# Altium footprint library Connector_Phoenix_MSTB.PcbLib: 180 footprints (part 3 of 12)
Each footprint in its own frame and in the unit in brackets; x right, y up, seen from the top. Pads: shape width x height; smd on the part's side, far side on the other; paste and mask are expansions set on the pad; w line width, h text height; cw(c..) or ccw(c..) is an arc to the next point about the centre after c.
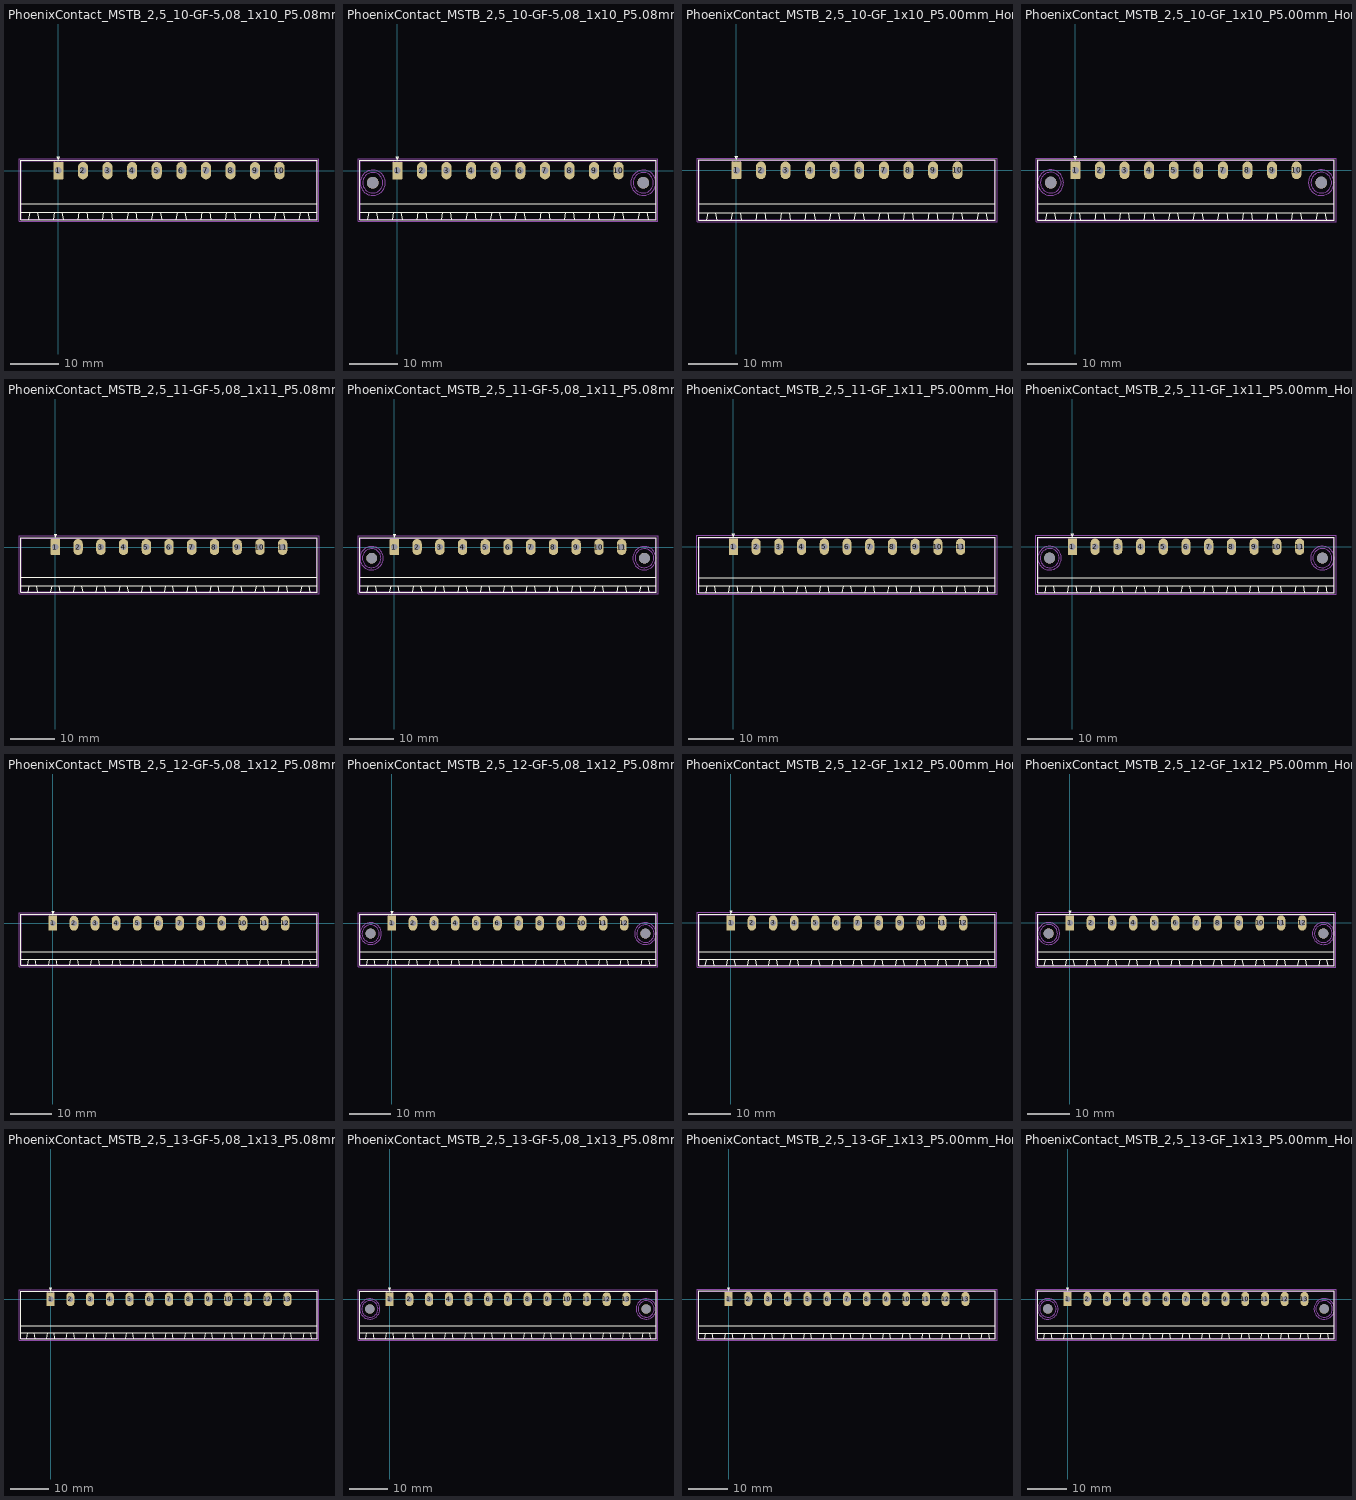
[diagram p2: the footprints below, top view; thin cyan lines are the x and y axes]

## PhoenixContact_MSTB_2,5_10-GF-5,08_1x10_P5.08mm_Horizontal_ThreadedFlange [mm]
pads (10):
  rrect12% 2.08x3.6 hole 1.4: 1(0,0)
  rrect100% 2.08x3.6 hole 1.4: 2(5.08,0) 3(10.16,0) 4(15.24,0) 5(20.32,0) 6(25.4,0) 7(30.48,0) 8(35.56,0) 9(40.64,0) 10(45.72,0)
F.SilkS:
  lines w0.254: -7.73,-10.11 53.45,-10.11 53.45,2.11 -7.73,2.11 -7.73,-10.11 ; -7.73,-8.61 53.45,-8.61 53.45,-6.81 -7.73,-6.81 -7.73,-8.61 ; -6.08,-10.11 -5.83,-8.61 -4.33,-8.61 -4.08,-10.11 -6.08,-10.11 ; -1,-10.11 -0.75,-8.61 0.75,-8.61 1,-10.11 -1,-10.11 ; -0.3,2.91 0,2.31 0.3,2.91 -0.3,2.91 ; 4.08,-10.11 4.33,-8.61 5.83,-8.61 6.08,-10.11 4.08,-10.11 ; 9.16,-10.11 9.41,-8.61 10.91,-8.61 11.16,-10.11 9.16,-10.11 ; 14.24,-10.11 14.49,-8.61 15.99,-8.61 16.24,-10.11 14.24,-10.11 ; 19.32,-10.11 19.57,-8.61 21.07,-8.61 21.32,-10.11 19.32,-10.11 ; 24.4,-10.11 24.65,-8.61 26.15,-8.61 26.4,-10.11 24.4,-10.11 ; 29.48,-10.11 29.73,-8.61 31.23,-8.61 31.48,-10.11 29.48,-10.11 ; 34.56,-10.11 34.81,-8.61 36.31,-8.61 36.56,-10.11 34.56,-10.11 ; 39.64,-10.11 39.89,-8.61 41.39,-8.61 41.64,-10.11 39.64,-10.11 ; 44.72,-10.11 44.97,-8.61 46.47,-8.61 46.72,-10.11 44.72,-10.11 ; 49.8,-10.11 50.05,-8.61 51.55,-8.61 51.8,-10.11 49.8,-10.11
Top Assembly:
  lines w0.254: -0.95,2 0,0.5 0.95,2 ; -7.62,-10 53.34,-10 53.34,2 -7.62,2 -7.62,-10
  text "'.Designator'" at 18.813,0.46 h1
Top Courtyard:
  lines w0.254: -8.13,-10.5 53.84,-10.5 53.84,2.5 -8.13,2.5 -8.13,-10.5
Top Designator:
  text ".Designator" at 15.237,-4.303 h1.52

## PhoenixContact_MSTB_2,5_10-GF-5,08_1x10_P5.08mm_Horizontal_ThreadedFlange_MountHole [mm]
pads (12):
  rrect12% 2.08x3.6 hole 1.4: 1(0,0)
  rrect100% 2.08x3.6 hole 1.4: 2(5.08,0) 3(10.16,0) 4(15.24,0) 5(20.32,0) 6(25.4,0) 7(30.48,0) 8(35.56,0) 9(40.64,0) 10(45.72,0)
  round 2.4 hole 2.4: Un1(-5.08,-2.5) Un2(50.8,-2.5)
F.SilkS:
  lines w0.254: -7.73,-10.11 53.45,-10.11 53.45,2.11 -7.73,2.11 -7.73,-10.11 ; -7.73,-8.61 53.45,-8.61 53.45,-6.81 -7.73,-6.81 -7.73,-8.61 ; -6.08,-10.11 -5.83,-8.61 -4.33,-8.61 -4.08,-10.11 -6.08,-10.11 ; -1,-10.11 -0.75,-8.61 0.75,-8.61 1,-10.11 -1,-10.11 ; -0.3,2.91 0,2.31 0.3,2.91 -0.3,2.91 ; 4.08,-10.11 4.33,-8.61 5.83,-8.61 6.08,-10.11 4.08,-10.11 ; 9.16,-10.11 9.41,-8.61 10.91,-8.61 11.16,-10.11 9.16,-10.11 ; 14.24,-10.11 14.49,-8.61 15.99,-8.61 16.24,-10.11 14.24,-10.11 ; 19.32,-10.11 19.57,-8.61 21.07,-8.61 21.32,-10.11 19.32,-10.11 ; 24.4,-10.11 24.65,-8.61 26.15,-8.61 26.4,-10.11 24.4,-10.11 ; 29.48,-10.11 29.73,-8.61 31.23,-8.61 31.48,-10.11 29.48,-10.11 ; 34.56,-10.11 34.81,-8.61 36.31,-8.61 36.56,-10.11 34.56,-10.11 ; 39.64,-10.11 39.89,-8.61 41.39,-8.61 41.64,-10.11 39.64,-10.11 ; 44.72,-10.11 44.97,-8.61 46.47,-8.61 46.72,-10.11 44.72,-10.11 ; 49.8,-10.11 50.05,-8.61 51.55,-8.61 51.8,-10.11 49.8,-10.11
B.SilkS:
  circle w0.254: c50.8,-2.5 r2.21
  circle w0.254: c-5.08,-2.5 r2.21
Top Assembly:
  lines w0.254: -0.95,2 0,0.5 0.95,2 ; -7.62,-10 53.34,-10 53.34,2 -7.62,2 -7.62,-10
  text "'.Designator'" at 18.813,0.46 h1
Bottom Assembly:
  circle w0.254: c50.8,-2.5 r2.1
  circle w0.254: c-5.08,-2.5 r2.1
Top Courtyard:
  lines w0.254: -8.13,-10.5 53.84,-10.5 53.84,2.5 -8.13,2.5 -8.13,-10.5
Bottom Courtyard:
  circle w0.254: c50.8,-2.5 r2.6
  circle w0.254: c-5.08,-2.5 r2.6
Top Designator:
  text ".Designator" at 15.237,-4.303 h1.52

## PhoenixContact_MSTB_2,5_10-GF_1x10_P5.00mm_Horizontal_ThreadedFlange [mm]
pads (10):
  rrect12% 2x3.6 hole 1.4: 1(0,0)
  rrect100% 2x3.6 hole 1.4: 2(5,0) 3(10,0) 4(15,0) 5(20,0) 6(25,0) 7(30,0) 8(35,0) 9(40,0) 10(45,0)
F.SilkS:
  lines w0.254: -7.61,-10.11 52.61,-10.11 52.61,2.11 -7.61,2.11 -7.61,-10.11 ; -7.61,-8.61 52.61,-8.61 52.61,-6.81 -7.61,-6.81 -7.61,-8.61 ; -6,-10.11 -5.75,-8.61 -4.25,-8.61 -4,-10.11 -6,-10.11 ; -1,-10.11 -0.75,-8.61 0.75,-8.61 1,-10.11 -1,-10.11 ; -0.3,2.91 0,2.31 0.3,2.91 -0.3,2.91 ; 4,-10.11 4.25,-8.61 5.75,-8.61 6,-10.11 4,-10.11 ; 9,-10.11 9.25,-8.61 10.75,-8.61 11,-10.11 9,-10.11 ; 14,-10.11 14.25,-8.61 15.75,-8.61 16,-10.11 14,-10.11 ; 19,-10.11 19.25,-8.61 20.75,-8.61 21,-10.11 19,-10.11 ; 24,-10.11 24.25,-8.61 25.75,-8.61 26,-10.11 24,-10.11 ; 29,-10.11 29.25,-8.61 30.75,-8.61 31,-10.11 29,-10.11 ; 34,-10.11 34.25,-8.61 35.75,-8.61 36,-10.11 34,-10.11 ; 39,-10.11 39.25,-8.61 40.75,-8.61 41,-10.11 39,-10.11 ; 44,-10.11 44.25,-8.61 45.75,-8.61 46,-10.11 44,-10.11 ; 49,-10.11 49.25,-8.61 50.75,-8.61 51,-10.11 49,-10.11
Top Assembly:
  lines w0.254: -0.95,2 0,0.5 0.95,2 ; -7.5,-10 52.5,-10 52.5,2 -7.5,2 -7.5,-10
  text "'.Designator'" at 18.453,0.46 h1
Top Courtyard:
  lines w0.254: -8,-10.5 53,-10.5 53,2.5 -8,2.5 -8,-10.5
Top Designator:
  text ".Designator" at 14.882,-4.303 h1.52

## PhoenixContact_MSTB_2,5_10-GF_1x10_P5.00mm_Horizontal_ThreadedFlange_MountHole [mm]
pads (12):
  rrect12% 2x3.6 hole 1.4: 1(0,0)
  rrect100% 2x3.6 hole 1.4: 2(5,0) 3(10,0) 4(15,0) 5(20,0) 6(25,0) 7(30,0) 8(35,0) 9(40,0) 10(45,0)
  round 2.4 hole 2.4: Un1(-5,-2.5) Un2(50,-2.5)
F.SilkS:
  lines w0.254: -7.61,-10.11 52.61,-10.11 52.61,2.11 -7.61,2.11 -7.61,-10.11 ; -7.61,-8.61 52.61,-8.61 52.61,-6.81 -7.61,-6.81 -7.61,-8.61 ; -6,-10.11 -5.75,-8.61 -4.25,-8.61 -4,-10.11 -6,-10.11 ; -1,-10.11 -0.75,-8.61 0.75,-8.61 1,-10.11 -1,-10.11 ; -0.3,2.91 0,2.31 0.3,2.91 -0.3,2.91 ; 4,-10.11 4.25,-8.61 5.75,-8.61 6,-10.11 4,-10.11 ; 9,-10.11 9.25,-8.61 10.75,-8.61 11,-10.11 9,-10.11 ; 14,-10.11 14.25,-8.61 15.75,-8.61 16,-10.11 14,-10.11 ; 19,-10.11 19.25,-8.61 20.75,-8.61 21,-10.11 19,-10.11 ; 24,-10.11 24.25,-8.61 25.75,-8.61 26,-10.11 24,-10.11 ; 29,-10.11 29.25,-8.61 30.75,-8.61 31,-10.11 29,-10.11 ; 34,-10.11 34.25,-8.61 35.75,-8.61 36,-10.11 34,-10.11 ; 39,-10.11 39.25,-8.61 40.75,-8.61 41,-10.11 39,-10.11 ; 44,-10.11 44.25,-8.61 45.75,-8.61 46,-10.11 44,-10.11 ; 49,-10.11 49.25,-8.61 50.75,-8.61 51,-10.11 49,-10.11
B.SilkS:
  circle w0.254: c50,-2.5 r2.21
  circle w0.254: c-5,-2.5 r2.21
Top Assembly:
  lines w0.254: -0.95,2 0,0.5 0.95,2 ; -7.5,-10 52.5,-10 52.5,2 -7.5,2 -7.5,-10
  text "'.Designator'" at 18.453,0.46 h1
Bottom Assembly:
  circle w0.254: c50,-2.5 r2.1
  circle w0.254: c-5,-2.5 r2.1
Top Courtyard:
  lines w0.254: -8,-10.5 53,-10.5 53,2.5 -8,2.5 -8,-10.5
Bottom Courtyard:
  circle w0.254: c50,-2.5 r2.6
  circle w0.254: c-5,-2.5 r2.6
Top Designator:
  text ".Designator" at 14.882,-4.303 h1.52

## PhoenixContact_MSTB_2,5_11-GF-5,08_1x11_P5.08mm_Horizontal_ThreadedFlange [mm]
pads (11):
  rrect12% 2.08x3.6 hole 1.4: 1(0,0)
  rrect100% 2.08x3.6 hole 1.4: 2(5.08,0) 3(10.16,0) 4(15.24,0) 5(20.32,0) 6(25.4,0) 7(30.48,0) 8(35.56,0) 9(40.64,0) 10(45.72,0) 11(50.8,0)
F.SilkS:
  lines w0.254: -7.73,-10.11 58.53,-10.11 58.53,2.11 -7.73,2.11 -7.73,-10.11 ; -7.73,-8.61 58.53,-8.61 58.53,-6.81 -7.73,-6.81 -7.73,-8.61 ; -6.08,-10.11 -5.83,-8.61 -4.33,-8.61 -4.08,-10.11 -6.08,-10.11 ; -1,-10.11 -0.75,-8.61 0.75,-8.61 1,-10.11 -1,-10.11 ; -0.3,2.91 0,2.31 0.3,2.91 -0.3,2.91 ; 4.08,-10.11 4.33,-8.61 5.83,-8.61 6.08,-10.11 4.08,-10.11 ; 9.16,-10.11 9.41,-8.61 10.91,-8.61 11.16,-10.11 9.16,-10.11 ; 14.24,-10.11 14.49,-8.61 15.99,-8.61 16.24,-10.11 14.24,-10.11 ; 19.32,-10.11 19.57,-8.61 21.07,-8.61 21.32,-10.11 19.32,-10.11 ; 24.4,-10.11 24.65,-8.61 26.15,-8.61 26.4,-10.11 24.4,-10.11 ; 29.48,-10.11 29.73,-8.61 31.23,-8.61 31.48,-10.11 29.48,-10.11 ; 34.56,-10.11 34.81,-8.61 36.31,-8.61 36.56,-10.11 34.56,-10.11 ; 39.64,-10.11 39.89,-8.61 41.39,-8.61 41.64,-10.11 39.64,-10.11 ; 44.72,-10.11 44.97,-8.61 46.47,-8.61 46.72,-10.11 44.72,-10.11 ; 49.8,-10.11 50.05,-8.61 51.55,-8.61 51.8,-10.11 49.8,-10.11 ; 54.88,-10.11 55.13,-8.61 56.63,-8.61 56.88,-10.11 54.88,-10.11
Top Assembly:
  lines w0.254: -0.95,2 0,0.5 0.95,2 ; -7.62,-10 58.42,-10 58.42,2 -7.62,2 -7.62,-10
  text "'.Designator'" at 21.353,0.46 h1
Top Courtyard:
  lines w0.254: -8.13,-10.5 58.92,-10.5 58.92,2.5 -8.13,2.5 -8.13,-10.5
Top Designator:
  text ".Designator" at 17.777,-4.303 h1.52

## PhoenixContact_MSTB_2,5_11-GF-5,08_1x11_P5.08mm_Horizontal_ThreadedFlange_MountHole [mm]
pads (13):
  rrect12% 2.08x3.6 hole 1.4: 1(0,0)
  rrect100% 2.08x3.6 hole 1.4: 2(5.08,0) 3(10.16,0) 4(15.24,0) 5(20.32,0) 6(25.4,0) 7(30.48,0) 8(35.56,0) 9(40.64,0) 10(45.72,0) 11(50.8,0)
  round 2.4 hole 2.4: Un1(-5.08,-2.5) Un2(55.88,-2.5)
F.SilkS:
  lines w0.254: -7.73,-10.11 58.53,-10.11 58.53,2.11 -7.73,2.11 -7.73,-10.11 ; -7.73,-8.61 58.53,-8.61 58.53,-6.81 -7.73,-6.81 -7.73,-8.61 ; -6.08,-10.11 -5.83,-8.61 -4.33,-8.61 -4.08,-10.11 -6.08,-10.11 ; -1,-10.11 -0.75,-8.61 0.75,-8.61 1,-10.11 -1,-10.11 ; -0.3,2.91 0,2.31 0.3,2.91 -0.3,2.91 ; 4.08,-10.11 4.33,-8.61 5.83,-8.61 6.08,-10.11 4.08,-10.11 ; 9.16,-10.11 9.41,-8.61 10.91,-8.61 11.16,-10.11 9.16,-10.11 ; 14.24,-10.11 14.49,-8.61 15.99,-8.61 16.24,-10.11 14.24,-10.11 ; 19.32,-10.11 19.57,-8.61 21.07,-8.61 21.32,-10.11 19.32,-10.11 ; 24.4,-10.11 24.65,-8.61 26.15,-8.61 26.4,-10.11 24.4,-10.11 ; 29.48,-10.11 29.73,-8.61 31.23,-8.61 31.48,-10.11 29.48,-10.11 ; 34.56,-10.11 34.81,-8.61 36.31,-8.61 36.56,-10.11 34.56,-10.11 ; 39.64,-10.11 39.89,-8.61 41.39,-8.61 41.64,-10.11 39.64,-10.11 ; 44.72,-10.11 44.97,-8.61 46.47,-8.61 46.72,-10.11 44.72,-10.11 ; 49.8,-10.11 50.05,-8.61 51.55,-8.61 51.8,-10.11 49.8,-10.11 ; 54.88,-10.11 55.13,-8.61 56.63,-8.61 56.88,-10.11 54.88,-10.11
B.SilkS:
  circle w0.254: c55.88,-2.5 r2.21
  circle w0.254: c-5.08,-2.5 r2.21
Top Assembly:
  lines w0.254: -0.95,2 0,0.5 0.95,2 ; -7.62,-10 58.42,-10 58.42,2 -7.62,2 -7.62,-10
  text "'.Designator'" at 21.353,0.46 h1
Bottom Assembly:
  circle w0.254: c55.88,-2.5 r2.1
  circle w0.254: c-5.08,-2.5 r2.1
Top Courtyard:
  lines w0.254: -8.13,-10.5 58.92,-10.5 58.92,2.5 -8.13,2.5 -8.13,-10.5
Bottom Courtyard:
  circle w0.254: c55.88,-2.5 r2.6
  circle w0.254: c-5.08,-2.5 r2.6
Top Designator:
  text ".Designator" at 17.777,-4.303 h1.52

## PhoenixContact_MSTB_2,5_11-GF_1x11_P5.00mm_Horizontal_ThreadedFlange [mm]
pads (11):
  rrect12% 2x3.6 hole 1.4: 1(0,0)
  rrect100% 2x3.6 hole 1.4: 2(5,0) 3(10,0) 4(15,0) 5(20,0) 6(25,0) 7(30,0) 8(35,0) 9(40,0) 10(45,0) 11(50,0)
F.SilkS:
  lines w0.254: -7.61,-10.11 57.61,-10.11 57.61,2.11 -7.61,2.11 -7.61,-10.11 ; -7.61,-8.61 57.61,-8.61 57.61,-6.81 -7.61,-6.81 -7.61,-8.61 ; -6,-10.11 -5.75,-8.61 -4.25,-8.61 -4,-10.11 -6,-10.11 ; -1,-10.11 -0.75,-8.61 0.75,-8.61 1,-10.11 -1,-10.11 ; -0.3,2.91 0,2.31 0.3,2.91 -0.3,2.91 ; 4,-10.11 4.25,-8.61 5.75,-8.61 6,-10.11 4,-10.11 ; 9,-10.11 9.25,-8.61 10.75,-8.61 11,-10.11 9,-10.11 ; 14,-10.11 14.25,-8.61 15.75,-8.61 16,-10.11 14,-10.11 ; 19,-10.11 19.25,-8.61 20.75,-8.61 21,-10.11 19,-10.11 ; 24,-10.11 24.25,-8.61 25.75,-8.61 26,-10.11 24,-10.11 ; 29,-10.11 29.25,-8.61 30.75,-8.61 31,-10.11 29,-10.11 ; 34,-10.11 34.25,-8.61 35.75,-8.61 36,-10.11 34,-10.11 ; 39,-10.11 39.25,-8.61 40.75,-8.61 41,-10.11 39,-10.11 ; 44,-10.11 44.25,-8.61 45.75,-8.61 46,-10.11 44,-10.11 ; 49,-10.11 49.25,-8.61 50.75,-8.61 51,-10.11 49,-10.11 ; 54,-10.11 54.25,-8.61 55.75,-8.61 56,-10.11 54,-10.11
Top Assembly:
  lines w0.254: -0.95,2 0,0.5 0.95,2 ; -7.5,-10 57.5,-10 57.5,2 -7.5,2 -7.5,-10
  text "'.Designator'" at 20.953,0.46 h1
Top Courtyard:
  lines w0.254: -8,-10.5 58,-10.5 58,2.5 -8,2.5 -8,-10.5
Top Designator:
  text ".Designator" at 17.382,-4.303 h1.52

## PhoenixContact_MSTB_2,5_11-GF_1x11_P5.00mm_Horizontal_ThreadedFlange_MountHole [mm]
pads (13):
  rrect12% 2x3.6 hole 1.4: 1(0,0)
  rrect100% 2x3.6 hole 1.4: 2(5,0) 3(10,0) 4(15,0) 5(20,0) 6(25,0) 7(30,0) 8(35,0) 9(40,0) 10(45,0) 11(50,0)
  round 2.4 hole 2.4: Un1(-5,-2.5) Un2(55,-2.5)
F.SilkS:
  lines w0.254: -7.61,-10.11 57.61,-10.11 57.61,2.11 -7.61,2.11 -7.61,-10.11 ; -7.61,-8.61 57.61,-8.61 57.61,-6.81 -7.61,-6.81 -7.61,-8.61 ; -6,-10.11 -5.75,-8.61 -4.25,-8.61 -4,-10.11 -6,-10.11 ; -1,-10.11 -0.75,-8.61 0.75,-8.61 1,-10.11 -1,-10.11 ; -0.3,2.91 0,2.31 0.3,2.91 -0.3,2.91 ; 4,-10.11 4.25,-8.61 5.75,-8.61 6,-10.11 4,-10.11 ; 9,-10.11 9.25,-8.61 10.75,-8.61 11,-10.11 9,-10.11 ; 14,-10.11 14.25,-8.61 15.75,-8.61 16,-10.11 14,-10.11 ; 19,-10.11 19.25,-8.61 20.75,-8.61 21,-10.11 19,-10.11 ; 24,-10.11 24.25,-8.61 25.75,-8.61 26,-10.11 24,-10.11 ; 29,-10.11 29.25,-8.61 30.75,-8.61 31,-10.11 29,-10.11 ; 34,-10.11 34.25,-8.61 35.75,-8.61 36,-10.11 34,-10.11 ; 39,-10.11 39.25,-8.61 40.75,-8.61 41,-10.11 39,-10.11 ; 44,-10.11 44.25,-8.61 45.75,-8.61 46,-10.11 44,-10.11 ; 49,-10.11 49.25,-8.61 50.75,-8.61 51,-10.11 49,-10.11 ; 54,-10.11 54.25,-8.61 55.75,-8.61 56,-10.11 54,-10.11
B.SilkS:
  circle w0.254: c55,-2.5 r2.21
  circle w0.254: c-5,-2.5 r2.21
Top Assembly:
  lines w0.254: -0.95,2 0,0.5 0.95,2 ; -7.5,-10 57.5,-10 57.5,2 -7.5,2 -7.5,-10
  text "'.Designator'" at 20.953,0.46 h1
Bottom Assembly:
  circle w0.254: c55,-2.5 r2.1
  circle w0.254: c-5,-2.5 r2.1
Top Courtyard:
  lines w0.254: -8,-10.5 58,-10.5 58,2.5 -8,2.5 -8,-10.5
Bottom Courtyard:
  circle w0.254: c55,-2.5 r2.6
  circle w0.254: c-5,-2.5 r2.6
Top Designator:
  text ".Designator" at 17.382,-4.303 h1.52

## PhoenixContact_MSTB_2,5_12-GF-5,08_1x12_P5.08mm_Horizontal_ThreadedFlange [mm]
pads (12):
  rrect12% 2.08x3.6 hole 1.4: 1(0,0)
  rrect100% 2.08x3.6 hole 1.4: 2(5.08,0) 3(10.16,0) 4(15.24,0) 5(20.32,0) 6(25.4,0) 7(30.48,0) 8(35.56,0) 9(40.64,0) 10(45.72,0) 11(50.8,0) 12(55.88,0)
F.SilkS:
  lines w0.254: -7.73,-10.11 63.61,-10.11 63.61,2.11 -7.73,2.11 -7.73,-10.11 ; -7.73,-8.61 63.61,-8.61 63.61,-6.81 -7.73,-6.81 -7.73,-8.61 ; -6.08,-10.11 -5.83,-8.61 -4.33,-8.61 -4.08,-10.11 -6.08,-10.11 ; -1,-10.11 -0.75,-8.61 0.75,-8.61 1,-10.11 -1,-10.11 ; -0.3,2.91 0,2.31 0.3,2.91 -0.3,2.91 ; 4.08,-10.11 4.33,-8.61 5.83,-8.61 6.08,-10.11 4.08,-10.11 ; 9.16,-10.11 9.41,-8.61 10.91,-8.61 11.16,-10.11 9.16,-10.11 ; 14.24,-10.11 14.49,-8.61 15.99,-8.61 16.24,-10.11 14.24,-10.11 ; 19.32,-10.11 19.57,-8.61 21.07,-8.61 21.32,-10.11 19.32,-10.11 ; 24.4,-10.11 24.65,-8.61 26.15,-8.61 26.4,-10.11 24.4,-10.11 ; 29.48,-10.11 29.73,-8.61 31.23,-8.61 31.48,-10.11 29.48,-10.11 ; 34.56,-10.11 34.81,-8.61 36.31,-8.61 36.56,-10.11 34.56,-10.11 ; 39.64,-10.11 39.89,-8.61 41.39,-8.61 41.64,-10.11 39.64,-10.11 ; 44.72,-10.11 44.97,-8.61 46.47,-8.61 46.72,-10.11 44.72,-10.11 ; 49.8,-10.11 50.05,-8.61 51.55,-8.61 51.8,-10.11 49.8,-10.11 ; 54.88,-10.11 55.13,-8.61 56.63,-8.61 56.88,-10.11 54.88,-10.11 ; 59.96,-10.11 60.21,-8.61 61.71,-8.61 61.96,-10.11 59.96,-10.11
Top Assembly:
  lines w0.254: -0.95,2 0,0.5 0.95,2 ; -7.62,-10 63.5,-10 63.5,2 -7.62,2 -7.62,-10
  text "'.Designator'" at 23.893,0.46 h1
Top Courtyard:
  lines w0.254: -8.13,-10.5 64,-10.5 64,2.5 -8.13,2.5 -8.13,-10.5
Top Designator:
  text ".Designator" at 20.317,-4.303 h1.52

## PhoenixContact_MSTB_2,5_12-GF-5,08_1x12_P5.08mm_Horizontal_ThreadedFlange_MountHole [mm]
pads (14):
  rrect12% 2.08x3.6 hole 1.4: 1(0,0)
  rrect100% 2.08x3.6 hole 1.4: 2(5.08,0) 3(10.16,0) 4(15.24,0) 5(20.32,0) 6(25.4,0) 7(30.48,0) 8(35.56,0) 9(40.64,0) 10(45.72,0) 11(50.8,0) 12(55.88,0)
  round 2.4 hole 2.4: Un1(-5.08,-2.5) Un2(60.96,-2.5)
F.SilkS:
  lines w0.254: -7.73,-10.11 63.61,-10.11 63.61,2.11 -7.73,2.11 -7.73,-10.11 ; -7.73,-8.61 63.61,-8.61 63.61,-6.81 -7.73,-6.81 -7.73,-8.61 ; -6.08,-10.11 -5.83,-8.61 -4.33,-8.61 -4.08,-10.11 -6.08,-10.11 ; -1,-10.11 -0.75,-8.61 0.75,-8.61 1,-10.11 -1,-10.11 ; -0.3,2.91 0,2.31 0.3,2.91 -0.3,2.91 ; 4.08,-10.11 4.33,-8.61 5.83,-8.61 6.08,-10.11 4.08,-10.11 ; 9.16,-10.11 9.41,-8.61 10.91,-8.61 11.16,-10.11 9.16,-10.11 ; 14.24,-10.11 14.49,-8.61 15.99,-8.61 16.24,-10.11 14.24,-10.11 ; 19.32,-10.11 19.57,-8.61 21.07,-8.61 21.32,-10.11 19.32,-10.11 ; 24.4,-10.11 24.65,-8.61 26.15,-8.61 26.4,-10.11 24.4,-10.11 ; 29.48,-10.11 29.73,-8.61 31.23,-8.61 31.48,-10.11 29.48,-10.11 ; 34.56,-10.11 34.81,-8.61 36.31,-8.61 36.56,-10.11 34.56,-10.11 ; 39.64,-10.11 39.89,-8.61 41.39,-8.61 41.64,-10.11 39.64,-10.11 ; 44.72,-10.11 44.97,-8.61 46.47,-8.61 46.72,-10.11 44.72,-10.11 ; 49.8,-10.11 50.05,-8.61 51.55,-8.61 51.8,-10.11 49.8,-10.11 ; 54.88,-10.11 55.13,-8.61 56.63,-8.61 56.88,-10.11 54.88,-10.11 ; 59.96,-10.11 60.21,-8.61 61.71,-8.61 61.96,-10.11 59.96,-10.11
B.SilkS:
  circle w0.254: c60.96,-2.5 r2.21
  circle w0.254: c-5.08,-2.5 r2.21
Top Assembly:
  lines w0.254: -0.95,2 0,0.5 0.95,2 ; -7.62,-10 63.5,-10 63.5,2 -7.62,2 -7.62,-10
  text "'.Designator'" at 23.893,0.46 h1
Bottom Assembly:
  circle w0.254: c60.96,-2.5 r2.1
  circle w0.254: c-5.08,-2.5 r2.1
Top Courtyard:
  lines w0.254: -8.13,-10.5 64,-10.5 64,2.5 -8.13,2.5 -8.13,-10.5
Bottom Courtyard:
  circle w0.254: c60.96,-2.5 r2.6
  circle w0.254: c-5.08,-2.5 r2.6
Top Designator:
  text ".Designator" at 20.317,-4.303 h1.52

## PhoenixContact_MSTB_2,5_12-GF_1x12_P5.00mm_Horizontal_ThreadedFlange [mm]
pads (12):
  rrect12% 2x3.6 hole 1.4: 1(0,0)
  rrect100% 2x3.6 hole 1.4: 2(5,0) 3(10,0) 4(15,0) 5(20,0) 6(25,0) 7(30,0) 8(35,0) 9(40,0) 10(45,0) 11(50,0) 12(55,0)
F.SilkS:
  lines w0.254: -7.61,-10.11 62.61,-10.11 62.61,2.11 -7.61,2.11 -7.61,-10.11 ; -7.61,-8.61 62.61,-8.61 62.61,-6.81 -7.61,-6.81 -7.61,-8.61 ; -6,-10.11 -5.75,-8.61 -4.25,-8.61 -4,-10.11 -6,-10.11 ; -1,-10.11 -0.75,-8.61 0.75,-8.61 1,-10.11 -1,-10.11 ; -0.3,2.91 0,2.31 0.3,2.91 -0.3,2.91 ; 4,-10.11 4.25,-8.61 5.75,-8.61 6,-10.11 4,-10.11 ; 9,-10.11 9.25,-8.61 10.75,-8.61 11,-10.11 9,-10.11 ; 14,-10.11 14.25,-8.61 15.75,-8.61 16,-10.11 14,-10.11 ; 19,-10.11 19.25,-8.61 20.75,-8.61 21,-10.11 19,-10.11 ; 24,-10.11 24.25,-8.61 25.75,-8.61 26,-10.11 24,-10.11 ; 29,-10.11 29.25,-8.61 30.75,-8.61 31,-10.11 29,-10.11 ; 34,-10.11 34.25,-8.61 35.75,-8.61 36,-10.11 34,-10.11 ; 39,-10.11 39.25,-8.61 40.75,-8.61 41,-10.11 39,-10.11 ; 44,-10.11 44.25,-8.61 45.75,-8.61 46,-10.11 44,-10.11 ; 49,-10.11 49.25,-8.61 50.75,-8.61 51,-10.11 49,-10.11 ; 54,-10.11 54.25,-8.61 55.75,-8.61 56,-10.11 54,-10.11 ; 59,-10.11 59.25,-8.61 60.75,-8.61 61,-10.11 59,-10.11
Top Assembly:
  lines w0.254: -0.95,2 0,0.5 0.95,2 ; -7.5,-10 62.5,-10 62.5,2 -7.5,2 -7.5,-10
  text "'.Designator'" at 23.453,0.46 h1
Top Courtyard:
  lines w0.254: -8,-10.5 63,-10.5 63,2.5 -8,2.5 -8,-10.5
Top Designator:
  text ".Designator" at 19.882,-4.303 h1.52

## PhoenixContact_MSTB_2,5_12-GF_1x12_P5.00mm_Horizontal_ThreadedFlange_MountHole [mm]
pads (14):
  rrect12% 2x3.6 hole 1.4: 1(0,0)
  rrect100% 2x3.6 hole 1.4: 2(5,0) 3(10,0) 4(15,0) 5(20,0) 6(25,0) 7(30,0) 8(35,0) 9(40,0) 10(45,0) 11(50,0) 12(55,0)
  round 2.4 hole 2.4: Un1(-5,-2.5) Un2(60,-2.5)
F.SilkS:
  lines w0.254: -7.61,-10.11 62.61,-10.11 62.61,2.11 -7.61,2.11 -7.61,-10.11 ; -7.61,-8.61 62.61,-8.61 62.61,-6.81 -7.61,-6.81 -7.61,-8.61 ; -6,-10.11 -5.75,-8.61 -4.25,-8.61 -4,-10.11 -6,-10.11 ; -1,-10.11 -0.75,-8.61 0.75,-8.61 1,-10.11 -1,-10.11 ; -0.3,2.91 0,2.31 0.3,2.91 -0.3,2.91 ; 4,-10.11 4.25,-8.61 5.75,-8.61 6,-10.11 4,-10.11 ; 9,-10.11 9.25,-8.61 10.75,-8.61 11,-10.11 9,-10.11 ; 14,-10.11 14.25,-8.61 15.75,-8.61 16,-10.11 14,-10.11 ; 19,-10.11 19.25,-8.61 20.75,-8.61 21,-10.11 19,-10.11 ; 24,-10.11 24.25,-8.61 25.75,-8.61 26,-10.11 24,-10.11 ; 29,-10.11 29.25,-8.61 30.75,-8.61 31,-10.11 29,-10.11 ; 34,-10.11 34.25,-8.61 35.75,-8.61 36,-10.11 34,-10.11 ; 39,-10.11 39.25,-8.61 40.75,-8.61 41,-10.11 39,-10.11 ; 44,-10.11 44.25,-8.61 45.75,-8.61 46,-10.11 44,-10.11 ; 49,-10.11 49.25,-8.61 50.75,-8.61 51,-10.11 49,-10.11 ; 54,-10.11 54.25,-8.61 55.75,-8.61 56,-10.11 54,-10.11 ; 59,-10.11 59.25,-8.61 60.75,-8.61 61,-10.11 59,-10.11
B.SilkS:
  circle w0.254: c60,-2.5 r2.21
  circle w0.254: c-5,-2.5 r2.21
Top Assembly:
  lines w0.254: -0.95,2 0,0.5 0.95,2 ; -7.5,-10 62.5,-10 62.5,2 -7.5,2 -7.5,-10
  text "'.Designator'" at 23.453,0.46 h1
Bottom Assembly:
  circle w0.254: c60,-2.5 r2.1
  circle w0.254: c-5,-2.5 r2.1
Top Courtyard:
  lines w0.254: -8,-10.5 63,-10.5 63,2.5 -8,2.5 -8,-10.5
Bottom Courtyard:
  circle w0.254: c60,-2.5 r2.6
  circle w0.254: c-5,-2.5 r2.6
Top Designator:
  text ".Designator" at 19.882,-4.303 h1.52

## PhoenixContact_MSTB_2,5_13-GF-5,08_1x13_P5.08mm_Horizontal_ThreadedFlange [mm]
pads (13):
  rrect12% 2.08x3.6 hole 1.4: 1(0,0)
  rrect100% 2.08x3.6 hole 1.4: 2(5.08,0) 3(10.16,0) 4(15.24,0) 5(20.32,0) 6(25.4,0) 7(30.48,0) 8(35.56,0) 9(40.64,0) 10(45.72,0) 11(50.8,0) 12(55.88,0) 13(60.96,0)
F.SilkS:
  lines w0.254: -7.73,-10.11 68.69,-10.11 68.69,2.11 -7.73,2.11 -7.73,-10.11 ; -7.73,-8.61 68.69,-8.61 68.69,-6.81 -7.73,-6.81 -7.73,-8.61 ; -6.08,-10.11 -5.83,-8.61 -4.33,-8.61 -4.08,-10.11 -6.08,-10.11 ; -1,-10.11 -0.75,-8.61 0.75,-8.61 1,-10.11 -1,-10.11 ; -0.3,2.91 0,2.31 0.3,2.91 -0.3,2.91 ; 4.08,-10.11 4.33,-8.61 5.83,-8.61 6.08,-10.11 4.08,-10.11 ; 9.16,-10.11 9.41,-8.61 10.91,-8.61 11.16,-10.11 9.16,-10.11 ; 14.24,-10.11 14.49,-8.61 15.99,-8.61 16.24,-10.11 14.24,-10.11 ; 19.32,-10.11 19.57,-8.61 21.07,-8.61 21.32,-10.11 19.32,-10.11 ; 24.4,-10.11 24.65,-8.61 26.15,-8.61 26.4,-10.11 24.4,-10.11 ; 29.48,-10.11 29.73,-8.61 31.23,-8.61 31.48,-10.11 29.48,-10.11 ; 34.56,-10.11 34.81,-8.61 36.31,-8.61 36.56,-10.11 34.56,-10.11 ; 39.64,-10.11 39.89,-8.61 41.39,-8.61 41.64,-10.11 39.64,-10.11 ; 44.72,-10.11 44.97,-8.61 46.47,-8.61 46.72,-10.11 44.72,-10.11 ; 49.8,-10.11 50.05,-8.61 51.55,-8.61 51.8,-10.11 49.8,-10.11 ; 54.88,-10.11 55.13,-8.61 56.63,-8.61 56.88,-10.11 54.88,-10.11 ; 59.96,-10.11 60.21,-8.61 61.71,-8.61 61.96,-10.11 59.96,-10.11 ; 65.04,-10.11 65.29,-8.61 66.79,-8.61 67.04,-10.11 65.04,-10.11
Top Assembly:
  lines w0.254: -0.95,2 0,0.5 0.95,2 ; -7.62,-10 68.58,-10 68.58,2 -7.62,2 -7.62,-10
  text "'.Designator'" at 26.433,0.46 h1
Top Courtyard:
  lines w0.254: -8.13,-10.5 69.08,-10.5 69.08,2.5 -8.13,2.5 -8.13,-10.5
Top Designator:
  text ".Designator" at 22.857,-4.303 h1.52

## PhoenixContact_MSTB_2,5_13-GF-5,08_1x13_P5.08mm_Horizontal_ThreadedFlange_MountHole [mm]
pads (15):
  rrect12% 2.08x3.6 hole 1.4: 1(0,0)
  rrect100% 2.08x3.6 hole 1.4: 2(5.08,0) 3(10.16,0) 4(15.24,0) 5(20.32,0) 6(25.4,0) 7(30.48,0) 8(35.56,0) 9(40.64,0) 10(45.72,0) 11(50.8,0) 12(55.88,0) 13(60.96,0)
  round 2.4 hole 2.4: Un1(-5.08,-2.5) Un2(66.04,-2.5)
F.SilkS:
  lines w0.254: -7.73,-10.11 68.69,-10.11 68.69,2.11 -7.73,2.11 -7.73,-10.11 ; -7.73,-8.61 68.69,-8.61 68.69,-6.81 -7.73,-6.81 -7.73,-8.61 ; -6.08,-10.11 -5.83,-8.61 -4.33,-8.61 -4.08,-10.11 -6.08,-10.11 ; -1,-10.11 -0.75,-8.61 0.75,-8.61 1,-10.11 -1,-10.11 ; -0.3,2.91 0,2.31 0.3,2.91 -0.3,2.91 ; 4.08,-10.11 4.33,-8.61 5.83,-8.61 6.08,-10.11 4.08,-10.11 ; 9.16,-10.11 9.41,-8.61 10.91,-8.61 11.16,-10.11 9.16,-10.11 ; 14.24,-10.11 14.49,-8.61 15.99,-8.61 16.24,-10.11 14.24,-10.11 ; 19.32,-10.11 19.57,-8.61 21.07,-8.61 21.32,-10.11 19.32,-10.11 ; 24.4,-10.11 24.65,-8.61 26.15,-8.61 26.4,-10.11 24.4,-10.11 ; 29.48,-10.11 29.73,-8.61 31.23,-8.61 31.48,-10.11 29.48,-10.11 ; 34.56,-10.11 34.81,-8.61 36.31,-8.61 36.56,-10.11 34.56,-10.11 ; 39.64,-10.11 39.89,-8.61 41.39,-8.61 41.64,-10.11 39.64,-10.11 ; 44.72,-10.11 44.97,-8.61 46.47,-8.61 46.72,-10.11 44.72,-10.11 ; 49.8,-10.11 50.05,-8.61 51.55,-8.61 51.8,-10.11 49.8,-10.11 ; 54.88,-10.11 55.13,-8.61 56.63,-8.61 56.88,-10.11 54.88,-10.11 ; 59.96,-10.11 60.21,-8.61 61.71,-8.61 61.96,-10.11 59.96,-10.11 ; 65.04,-10.11 65.29,-8.61 66.79,-8.61 67.04,-10.11 65.04,-10.11
B.SilkS:
  circle w0.254: c66.04,-2.5 r2.21
  circle w0.254: c-5.08,-2.5 r2.21
Top Assembly:
  lines w0.254: -0.95,2 0,0.5 0.95,2 ; -7.62,-10 68.58,-10 68.58,2 -7.62,2 -7.62,-10
  text "'.Designator'" at 26.433,0.46 h1
Bottom Assembly:
  circle w0.254: c66.04,-2.5 r2.1
  circle w0.254: c-5.08,-2.5 r2.1
Top Courtyard:
  lines w0.254: -8.13,-10.5 69.08,-10.5 69.08,2.5 -8.13,2.5 -8.13,-10.5
Bottom Courtyard:
  circle w0.254: c66.04,-2.5 r2.6
  circle w0.254: c-5.08,-2.5 r2.6
Top Designator:
  text ".Designator" at 22.857,-4.303 h1.52

## PhoenixContact_MSTB_2,5_13-GF_1x13_P5.00mm_Horizontal_ThreadedFlange [mm]
pads (13):
  rrect12% 2x3.6 hole 1.4: 1(0,0)
  rrect100% 2x3.6 hole 1.4: 2(5,0) 3(10,0) 4(15,0) 5(20,0) 6(25,0) 7(30,0) 8(35,0) 9(40,0) 10(45,0) 11(50,0) 12(55,0) 13(60,0)
F.SilkS:
  lines w0.254: -7.61,-10.11 67.61,-10.11 67.61,2.11 -7.61,2.11 -7.61,-10.11 ; -7.61,-8.61 67.61,-8.61 67.61,-6.81 -7.61,-6.81 -7.61,-8.61 ; -6,-10.11 -5.75,-8.61 -4.25,-8.61 -4,-10.11 -6,-10.11 ; -1,-10.11 -0.75,-8.61 0.75,-8.61 1,-10.11 -1,-10.11 ; -0.3,2.91 0,2.31 0.3,2.91 -0.3,2.91 ; 4,-10.11 4.25,-8.61 5.75,-8.61 6,-10.11 4,-10.11 ; 9,-10.11 9.25,-8.61 10.75,-8.61 11,-10.11 9,-10.11 ; 14,-10.11 14.25,-8.61 15.75,-8.61 16,-10.11 14,-10.11 ; 19,-10.11 19.25,-8.61 20.75,-8.61 21,-10.11 19,-10.11 ; 24,-10.11 24.25,-8.61 25.75,-8.61 26,-10.11 24,-10.11 ; 29,-10.11 29.25,-8.61 30.75,-8.61 31,-10.11 29,-10.11 ; 34,-10.11 34.25,-8.61 35.75,-8.61 36,-10.11 34,-10.11 ; 39,-10.11 39.25,-8.61 40.75,-8.61 41,-10.11 39,-10.11 ; 44,-10.11 44.25,-8.61 45.75,-8.61 46,-10.11 44,-10.11 ; 49,-10.11 49.25,-8.61 50.75,-8.61 51,-10.11 49,-10.11 ; 54,-10.11 54.25,-8.61 55.75,-8.61 56,-10.11 54,-10.11 ; 59,-10.11 59.25,-8.61 60.75,-8.61 61,-10.11 59,-10.11 ; 64,-10.11 64.25,-8.61 65.75,-8.61 66,-10.11 64,-10.11
Top Assembly:
  lines w0.254: -0.95,2 0,0.5 0.95,2 ; -7.5,-10 67.5,-10 67.5,2 -7.5,2 -7.5,-10
  text "'.Designator'" at 25.953,0.46 h1
Top Courtyard:
  lines w0.254: -8,-10.5 68,-10.5 68,2.5 -8,2.5 -8,-10.5
Top Designator:
  text ".Designator" at 22.382,-4.303 h1.52

## PhoenixContact_MSTB_2,5_13-GF_1x13_P5.00mm_Horizontal_ThreadedFlange_MountHole [mm]
pads (15):
  rrect12% 2x3.6 hole 1.4: 1(0,0)
  rrect100% 2x3.6 hole 1.4: 2(5,0) 3(10,0) 4(15,0) 5(20,0) 6(25,0) 7(30,0) 8(35,0) 9(40,0) 10(45,0) 11(50,0) 12(55,0) 13(60,0)
  round 2.4 hole 2.4: Un1(-5,-2.5) Un2(65,-2.5)
F.SilkS:
  lines w0.254: -7.61,-10.11 67.61,-10.11 67.61,2.11 -7.61,2.11 -7.61,-10.11 ; -7.61,-8.61 67.61,-8.61 67.61,-6.81 -7.61,-6.81 -7.61,-8.61 ; -6,-10.11 -5.75,-8.61 -4.25,-8.61 -4,-10.11 -6,-10.11 ; -1,-10.11 -0.75,-8.61 0.75,-8.61 1,-10.11 -1,-10.11 ; -0.3,2.91 0,2.31 0.3,2.91 -0.3,2.91 ; 4,-10.11 4.25,-8.61 5.75,-8.61 6,-10.11 4,-10.11 ; 9,-10.11 9.25,-8.61 10.75,-8.61 11,-10.11 9,-10.11 ; 14,-10.11 14.25,-8.61 15.75,-8.61 16,-10.11 14,-10.11 ; 19,-10.11 19.25,-8.61 20.75,-8.61 21,-10.11 19,-10.11 ; 24,-10.11 24.25,-8.61 25.75,-8.61 26,-10.11 24,-10.11 ; 29,-10.11 29.25,-8.61 30.75,-8.61 31,-10.11 29,-10.11 ; 34,-10.11 34.25,-8.61 35.75,-8.61 36,-10.11 34,-10.11 ; 39,-10.11 39.25,-8.61 40.75,-8.61 41,-10.11 39,-10.11 ; 44,-10.11 44.25,-8.61 45.75,-8.61 46,-10.11 44,-10.11 ; 49,-10.11 49.25,-8.61 50.75,-8.61 51,-10.11 49,-10.11 ; 54,-10.11 54.25,-8.61 55.75,-8.61 56,-10.11 54,-10.11 ; 59,-10.11 59.25,-8.61 60.75,-8.61 61,-10.11 59,-10.11 ; 64,-10.11 64.25,-8.61 65.75,-8.61 66,-10.11 64,-10.11
B.SilkS:
  circle w0.254: c65,-2.5 r2.21
  circle w0.254: c-5,-2.5 r2.21
Top Assembly:
  lines w0.254: -0.95,2 0,0.5 0.95,2 ; -7.5,-10 67.5,-10 67.5,2 -7.5,2 -7.5,-10
  text "'.Designator'" at 25.953,0.46 h1
Bottom Assembly:
  circle w0.254: c65,-2.5 r2.1
  circle w0.254: c-5,-2.5 r2.1
Top Courtyard:
  lines w0.254: -8,-10.5 68,-10.5 68,2.5 -8,2.5 -8,-10.5
Bottom Courtyard:
  circle w0.254: c65,-2.5 r2.6
  circle w0.254: c-5,-2.5 r2.6
Top Designator:
  text ".Designator" at 22.382,-4.303 h1.52